# Altium integrated library NXP LPC2000.IntLib: 82 symbols (part 6 of 6)
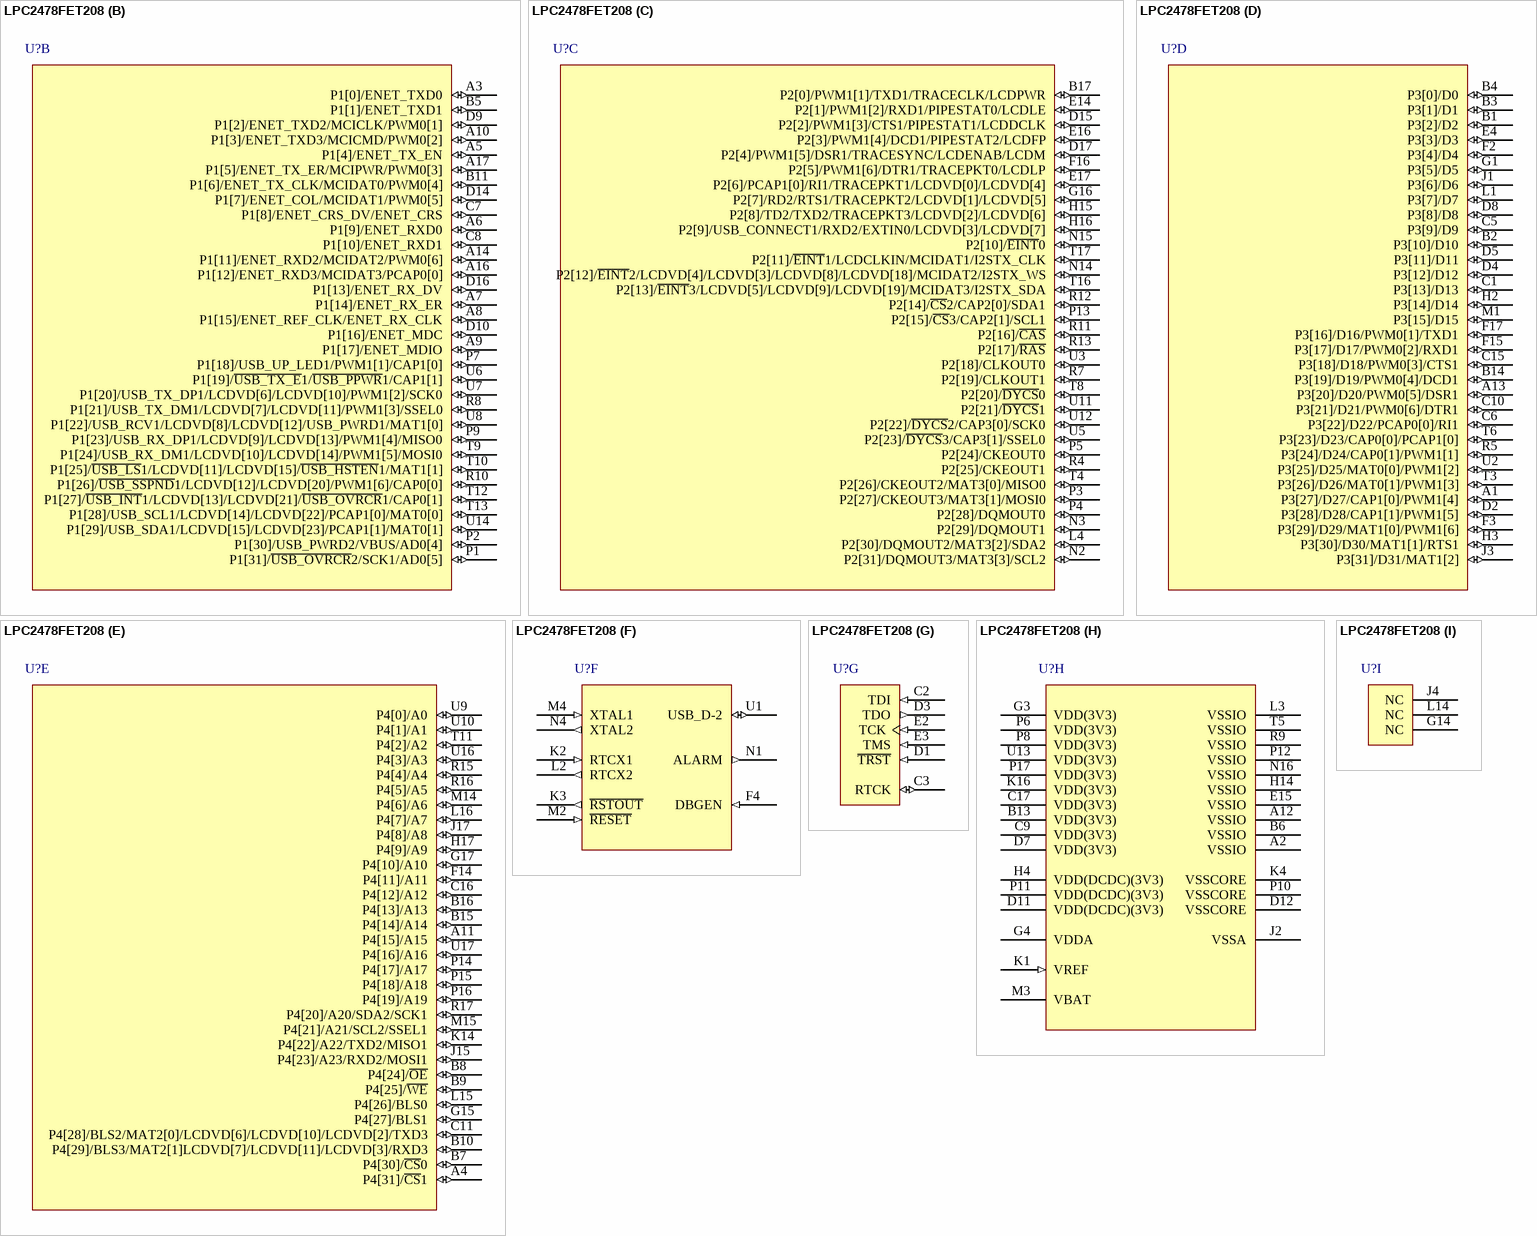
[diagram p34: symbol LPC2478FET208]

## LPC2478FET208
designator U?
ARM7 16/32-Bit Microcontroller, 512KB Flash, 98KB RAM, LCD controller, 208-Lead TFBGA; Published: 17-Aug-2007; DatasheetVersion: rev.01, Jul-2007; PackageVersion: Jun-2006; PackageReference: SOT950-1; Publisher: Altium Limited; PackageDescription: 208-Ball Plastic Thin Fine Pitch Ball Grid Array, TFBGA208; ComponentLink1Description: Manufacturer Link; ComponentLink1URL: http://www.nxp.com/; ComponentLink2Description: Datasheet; ComponentLink2URL: http://www.standardics.nxp.com/products/lpc2000/datasheet/lpc2478.pdf
footprint SOT950-1 (BGA, 208-Leads, Body 15x15mm, Pitch 0.8mm)
3D model LPC2478-BGA208 (208-Ball Plastic Thin Fine Pitch Ball Grid Array, TFBGA208)
part A pins: A15 P0[8]/I2STX_WS/LCDVD[16]/MISO1/MAT2[2] (io), B12 P0[4]/I2SRX_CLK/LCDVD[0]/RD2/CAP2[0] (io), C4 P0[2]/TXD0 (io), C12 P0[5]/I2SRX_WS/LCDVD[1]/TD2/CAP2[1] (io), C13 P0[7]/I2STX_CLK/LCDVD[9]/SCK1/MAT2[1] (io), C14 P0[9]/I2STX_SDA/LCDVD[17]/MOSI1/MAT2[3] (io), D6 P0[3]/RXD0 (io), D13 P0[6]/I2SRX_SDA/LCDVD[8]/SSEL1/MAT2[0] (io), E1 P0[26]/AD0[3]/AOUT/RXD3 (io), F1 P0[25]/AD0[2]/I2SRX_SDA/TXD3 (io), G2 P0[24]/AD0[1]/I2SRX_WS/CAP3[1] (io), H1 P0[23]/AD0[0]/I2SRX_CLK/CAP3[0] (io), J14 P0[16]/RXD1/SSEL0/SSEL (io), J16 P0[15]/TXD1/SCK0/SCK (io), K15 P0[18]/DCD1/MOSI0/MOSI (io), K17 P0[17]/CTS1/MISO0/MISO (io), L17 P0[19]/DSR1/MCICLK/SDA1 (io), M16 P0[21]/RI1/MCIPWR/RD1 (io), M17 P0[20]/DTR1/MCICMD/SCL1 (io), N17 P0[22]/RTS1/MCIDAT0/TD1 (io), R1 P0[12]/~{USB_PPWR}2/MISO1/AD0[6] (io), R2 P0[13]/USB_UP_LED2/MOSI1/AD0[7] (io), R3 P0[28]/SCL0 (io), R6 P0[30]/USB_D-1 (io), R14 P0[11]/RXD2/SCL2/MAT3[1] (io), T1 P0[27]/SDA0 (io), T2 P0[31]/USB_D+2 (io), T7 P0[14]/~{USB_HSTEN}2/USB_CONNECT2/SSEL1 (io), T14 P0[1]/TD1/RXD3/SCL1 (io), T15 P0[10]/TXD2/SDA2/MAT3[0] (io), U4 P0[29]/USB_D+1 (io), U15 P0[0]/RD1/TXD3/SDA1 (io)
part B pins: A3 P1[0]/ENET_TXD0 (io), A5 P1[4]/ENET_TX_EN (io), A6 P1[9]/ENET_RXD0 (io), A7 P1[14]/ENET_RX_ER (io), A8 P1[15]/ENET_REF_CLK/ENET_RX_CLK (io), A9 P1[17]/ENET_MDIO (io), A10 P1[3]/ENET_TXD3/MCICMD/PWM0[2] (io), A14 P1[11]/ENET_RXD2/MCIDAT2/PWM0[6] (io), A16 P1[12]/ENET_RXD3/MCIDAT3/PCAP0[0] (io), A17 P1[5]/ENET_TX_ER/MCIPWR/PWM0[3] (io), B5 P1[1]/ENET_TXD1 (io), B11 P1[6]/ENET_TX_CLK/MCIDAT0/PWM0[4] (io), C7 P1[8]/ENET_CRS_DV/ENET_CRS (io), C8 P1[10]/ENET_RXD1 (io), D9 P1[2]/ENET_TXD2/MCICLK/PWM0[1] (io), D10 P1[16]/ENET_MDC (io), D14 P1[7]/ENET_COL/MCIDAT1/PWM0[5] (io), D16 P1[13]/ENET_RX_DV (io), P1 P1[31]/~{USB_OVRCR}2/SCK1/AD0[5] (io), P2 P1[30]/USB_PWRD2/VBUS/AD0[4] (io), P7 P1[18]/USB_UP_LED1/PWM1[1]/CAP1[0] (io), P9 P1[23]/USB_RX_DP1/LCDVD[9]/LCDVD[13]/PWM1[4]/MISO0 (io), R8 P1[21]/USB_TX_DM1/LCDVD[7]/LCDVD[11]/PWM1[3]/SSEL0 (io), R10 P1[26]/~{USB_SSPND}1/LCDVD[12]/LCDVD[20]/PWM1[6]/CAP0[0] (io), T9 P1[24]/USB_RX_DM1/LCDVD[10]/LCDVD[14]/PWM1[5]/MOSI0 (io), T10 P1[25]/~{USB_LS}1/LCDVD[11]/LCDVD[15]/~{USB_HSTEN}1/MAT1[1] (io), T12 P1[27]/~{USB_INT}1/LCDVD[13]/LCDVD[21]/~{USB_OVRCR}1/CAP0[1] (io), T13 P1[28]/USB_SCL1/LCDVD[14]/LCDVD[22]/PCAP1[0]/MAT0[0] (io), U6 P1[19]/~{USB_TX_E}1/~{USB_PPWR}1/CAP1[1] (io), U7 P1[20]/USB_TX_DP1/LCDVD[6]/LCDVD[10]/PWM1[2]/SCK0 (io), U8 P1[22]/USB_RCV1/LCDVD[8]/LCDVD[12]/USB_PWRD1/MAT1[0] (io), U14 P1[29]/USB_SDA1/LCDVD[15]/LCDVD[23]/PCAP1[1]/MAT0[1] (io)
part C pins: B17 P2[0]/PWM1[1]/TXD1/TRACECLK/LCDPWR (io), D15 P2[2]/PWM1[3]/CTS1/PIPESTAT1/LCDDCLK (io), D17 P2[4]/PWM1[5]/DSR1/TRACESYNC/LCDENAB/LCDM (io), E14 P2[1]/PWM1[2]/RXD1/PIPESTAT0/LCDLE (io), E16 P2[3]/PWM1[4]/DCD1/PIPESTAT2/LCDFP (io), E17 P2[6]/PCAP1[0]/RI1/TRACEPKT1/LCDVD[0]/LCDVD[4] (io), F16 P2[5]/PWM1[6]/DTR1/TRACEPKT0/LCDLP (io), G16 P2[7]/RD2/RTS1/TRACEPKT2/LCDVD[1]/LCDVD[5] (io), H15 P2[8]/TD2/TXD2/TRACEPKT3/LCDVD[2]/LCDVD[6] (io), H16 P2[9]/USB_CONNECT1/RXD2/EXTIN0/LCDVD[3]/LCDVD[7] (io), L4 P2[30]/DQMOUT2/MAT3[2]/SDA2 (io), N2 P2[31]/DQMOUT3/MAT3[3]/SCL2 (io), N3 P2[29]/DQMOUT1 (io), N14 P2[12]/~{EINT}2/LCDVD[4]/LCDVD[3]/LCDVD[8]/LCDVD[18]/MCIDAT2/I2STX_WS (io), N15 P2[10]/~{EINT}0 (io), P3 P2[27]/CKEOUT3/MAT3[1]/MOSI0 (io), P4 P2[28]/DQMOUT0 (io), P5 P2[24]/CKEOUT0 (io), P13 P2[15]/~{CS}3/CAP2[1]/SCL1 (io), R4 P2[25]/CKEOUT1 (io), R7 P2[19]/CLKOUT1 (io), R11 P2[16]/~{CAS} (io), R12 P2[14]/~{CS}2/CAP2[0]/SDA1 (io), R13 P2[17]/~{RAS} (io), T4 P2[26]/CKEOUT2/MAT3[0]/MISO0 (io), T8 P2[20]/~{DYCS}0 (io), T16 P2[13]/~{EINT}3/LCDVD[5]/LCDVD[9]/LCDVD[19]/MCIDAT3/I2STX_SDA (io), T17 P2[11]/~{EINT}1/LCDCLKIN/MCIDAT1/I2STX_CLK (io), U3 P2[18]/CLKOUT0 (io), U5 P2[23]/~{DYCS}3/CAP3[1]/SSEL0 (io), U11 P2[21]/~{DYCS}1 (io), U12 P2[22]/~{DYCS}2/CAP3[0]/SCK0 (io)
part D pins: A1 P3[27]/D27/CAP1[0]/PWM1[4] (io), A13 P3[20]/D20/PWM0[5]/DSR1 (io), B1 P3[2]/D2 (io), B2 P3[10]/D10 (io), B3 P3[1]/D1 (io), B4 P3[0]/D0 (io), B14 P3[19]/D19/PWM0[4]/DCD1 (io), C1 P3[13]/D13 (io), C5 P3[9]/D9 (io), C6 P3[22]/D22/PCAP0[0]/RI1 (io), C10 P3[21]/D21/PWM0[6]/DTR1 (io), C15 P3[18]/D18/PWM0[3]/CTS1 (io), D2 P3[28]/D28/CAP1[1]/PWM1[5] (io), D4 P3[12]/D12 (io), D5 P3[11]/D11 (io), D8 P3[8]/D8 (io), E4 P3[3]/D3 (io), F2 P3[4]/D4 (io), F3 P3[29]/D29/MAT1[0]/PWM1[6] (io), F15 P3[17]/D17/PWM0[2]/RXD1 (io), F17 P3[16]/D16/PWM0[1]/TXD1 (io), G1 P3[5]/D5 (io), H2 P3[14]/D14 (io), H3 P3[30]/D30/MAT1[1]/RTS1 (io), J1 P3[6]/D6 (io), J3 P3[31]/D31/MAT1[2] (io), L1 P3[7]/D7 (io), M1 P3[15]/D15 (io), R5 P3[24]/D24/CAP0[1]/PWM1[1] (io), T3 P3[26]/D26/MAT0[1]/PWM1[3] (io), T6 P3[23]/D23/CAP0[0]/PCAP1[0] (io), U2 P3[25]/D25/MAT0[0]/PWM1[2] (io)
part E pins: A4 P4[31]/~{CS}1 (io), A11 P4[15]/A15 (io), B7 P4[30]/~{CS}0 (io), B8 P4[24]/~{OE} (io), B9 P4[25]/~{WE} (io), B10 P4[29]/BLS3/MAT2[1]LCDVD[7]/LCDVD[11]/LCDVD[3]/RXD3 (io), B15 P4[14]/A14 (io), B16 P4[13]/A13 (io), C11 P4[28]/BLS2/MAT2[0]/LCDVD[6]/LCDVD[10]/LCDVD[2]/TXD3 (io), C16 P4[12]/A12 (io), F14 P4[11]/A11 (io), G15 P4[27]/BLS1 (io), G17 P4[10]/A10 (io), H17 P4[9]/A9 (io), J15 P4[23]/A23/RXD2/MOSI1 (io), J17 P4[8]/A8 (io), K14 P4[22]/A22/TXD2/MISO1 (io), L15 P4[26]/BLS0 (io), L16 P4[7]/A7 (io), M14 P4[6]/A6 (io), M15 P4[21]/A21/SCL2/SSEL1 (io), P14 P4[17]/A17 (io), P15 P4[18]/A18 (io), P16 P4[19]/A19 (io), R15 P4[4]/A4 (io), R16 P4[5]/A5 (io), R17 P4[20]/A20/SDA2/SCK1 (io), T11 P4[2]/A2 (io), U9 P4[0]/A0 (io), U10 P4[1]/A1 (io), U16 P4[3]/A3 (io), U17 P4[16]/A16 (io)
part F pins: F4 DBGEN (in), K2 RTCX1 (in), K3 ~{RSTOUT} (out), L2 RTCX2 (out), M2 ~{RESET} (in), M4 XTAL1 (in), N1 ALARM (out), N4 XTAL2 (out), U1 USB_D-2 (io)
part G pins: C2 TDI (in), C3 RTCK (io), D1 ~{TRST} (in), D3 TDO (out), E2 TCK (in), E3 TMS (in)
part H pins: A2 VSSIO (power), A12 VSSIO (power), B6 VSSIO (power), B13 VDD(3V3) (power), C9 VDD(3V3) (power), C17 VDD(3V3) (power), D7 VDD(3V3) (power), D11 VDD(DCDC)(3V3) (power), D12 VSSCORE (power), E15 VSSIO (power), G3 VDD(3V3) (power), G4 VDDA (power), H4 VDD(DCDC)(3V3) (power), H14 VSSIO (power), J2 VSSA (power), K1 VREF (in), K4 VSSCORE (power), K16 VDD(3V3) (power), L3 VSSIO (power), M3 VBAT (power), N16 VSSIO (power), P6 VDD(3V3) (power), P8 VDD(3V3) (power), P10 VSSCORE (power), P11 VDD(DCDC)(3V3) (power), P12 VSSIO (power), P17 VDD(3V3) (power), R9 VSSIO (power), T5 VSSIO (power), U13 VDD(3V3) (power)
part I pins: G14 NC, J4 NC, L14 NC

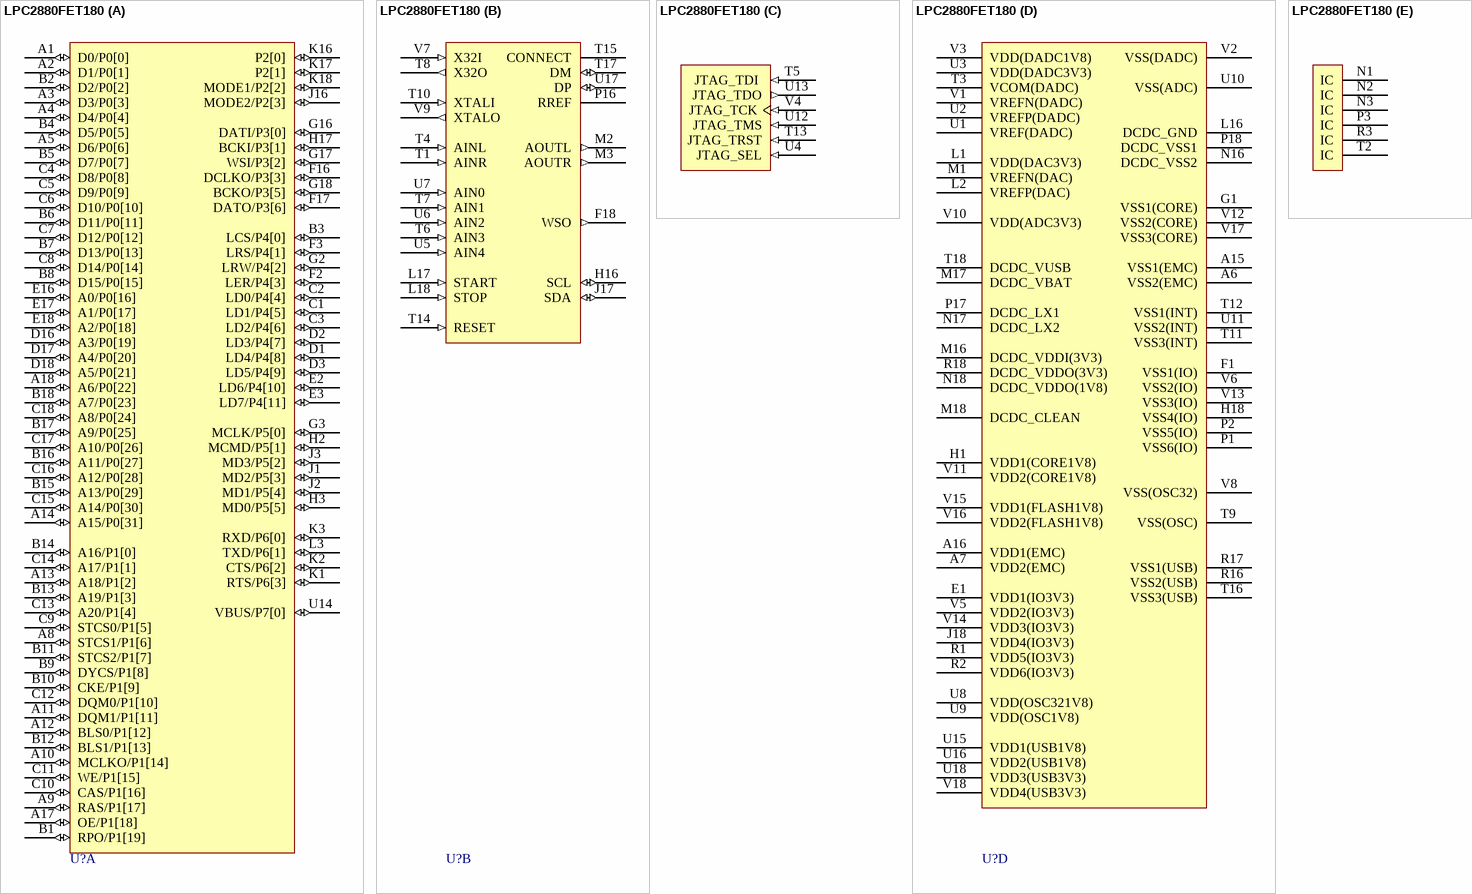
[diagram p28: symbol LPC2880FET180]

## LPC2880FET180
designator U?
ARM7 16/32-Bit Microcontroller, 8 kB cache, 64kB SRAM, Hi-Speed USB 2.0 device, 180-Lead TFBGA; Published: 17-Aug-2007; DatasheetVersion: rev.03, May-2007; PackageVersion: Mar-2003; PackageReference: SOT640-1; Publisher: Altium Limited; PackageDescription: 180-Ball Plastic Thin Fine-Pitch Ball Grid Array (TFBGA180); Code_JEDEC: MO-195; ComponentLink1Description: Manufacturer Link; ComponentLink1URL: http://www.nxp.com/; ComponentLink2Description: Datasheet; ComponentLink2URL: http://www.standardics.nxp.com/products/lpc2000/datasheet/lpc2880.lpc2888.pdf
footprint SOT640-1 (BGA, 180-Leads, Body 10x10mm, Pitch 0.5mm)
3D model LPC2880-BGA180 (180-Ball Plastic Thin Fine-Pitch Ball Grid Array (TFBGA180))
part A pins: A1 D0/P0[0] (io) "external memory data bus, low byte (I/O); GPIO pin", A2 D1/P0[1] (io) "external memory data bus, low byte (I/O); GPIO pin", A3 D3/P0[3] (io) "external memory data bus, low byte (I/O); GPIO pin", A4 D4/P0[4] (io) "external memory data bus, low byte (I/O); GPIO pin", A5 D6/P0[6] (io) "external memory data bus, low byte (I/O); GPIO pin", A8 STCS1/P1[6] (io) "chip select, active LOW for static memory bank 1; GPIO pin", A9 RAS/P1[17] (io) "row address strobe, active LOW for SDRAM; GPIO pin", A10 MCLKO/P1[14] (io) "clock for SDRAM and SyncFlash memory; GPIO pin", A11 DQM1/P1[11] (io) "data mask output for D[15:8], active HIGH for SDRAM; GPIO pin", A12 BLS0/P1[12] (io) "byte lane select for D[7:0], active LOW for static memory; GPIO pin", A13 A18/P1[2] (io) "address bus for static memory; GPIO pins", A14 A15/P0[31] (io) "address bus for static memory; GPIO pins", A17 OE/P1[18] (io) "output enable, active LOW for static memory; GPIO pin", A18 A6/P0[22] (io) "address bus for SDRAM and static memory; GPIO pins", B1 RPO/P1[19] (io) "reset power down, active LOW for SyncFlash memory; GPIO pin", B2 D2/P0[2] (io) "external memory data bus, low byte (I/O); GPIO pin", B3 LCS/P4[0] (io) "chip select to LCD device, programmable polarity; 5 V tolerant GPIO pin", B4 D5/P0[5] (io) "external memory data bus, low byte (I/O); GPIO pin", B5 D7/P0[7] (io) "external memory data bus, low byte (I/O); GPIO pin", B6 D11/P0[11] (io) "external memory data bus, high byte (I/O); GPIO pin", B7 D13/P0[13] (io) "external memory data bus, high byte (I/O); GPIO pin", B8 D15/P0[15] (io) "external memory data bus, high byte (I/O); GPIO pin", B9 DYCS/P1[8] (io) "chip select, active LOW for SDRAM; GPIO pin", B10 CKE/P1[9] (io) "clock enable; active HIGH for SDRAM; GPIO pin", B11 STCS2/P1[7] (io) "chip select, active LOW for static memory bank 2; GPIO pin", B12 BLS1/P1[13] (io) "byte lane select for D[15:8], active LOW for static memory; GPIO pin", B13 A19/P1[3] (io) "address bus for static memory; GPIO pins", B14 A16/P1[0] (io) "address bus for static memory; GPIO pins", B15 A13/P0[29] (io) "address bus for SDRAM and static memory; GPIO pins", B16 A11/P0[27] (io) "address bus for SDRAM and static memory; GPIO pins", B17 A9/P0[25] (io) "address bus for SDRAM and static memory; GPIO pins", B18 A7/P0[23] (io) "address bus for SDRAM and static memory; GPIO pins", C1 LD1/P4[5] (io) "data bus to/from LCD (I/O) or 5 V tolerant GPIO pin", C2 LD0/P4[4] (io) "data bus to/from LCD (I/O) or 5 V tolerant GPIO pin", C3 LD2/P4[6] (io) "data bus to/from LCD (I/O) or 5 V tolerant GPIO pin", C4 D8/P0[8] (io) "external memory data bus, high byte (I/O); GPIO pin", C5 D9/P0[9] (io) "external memory data bus, high byte (I/O); GPIO pin", C6 D10/P0[10] (io) "external memory data bus, high byte (I/O); GPIO pin", C7 D12/P0[12] (io) "external memory data bus, high byte (I/O); GPIO pin", C8 D14/P0[14] (io) "external memory data bus, high byte (I/O); GPIO pin", C9 STCS0/P1[5] (io) "chip select, active LOW for static memory bank 0; GPIO pin", C10 CAS/P1[16] (io) "column address strobe, active LOW for SDRAM; GPIO pin", C11 WE/P1[15] (io) "write enable, active LOW for SDRAM and static memory; GPIO pin", C12 DQM0/P1[10] (io) "data mask output for D[7:0], active HIGH for SDRAM; GPIO pin", C13 A20/P1[4] (io) "address bus for static memory; GPIO pins", C14 A17/P1[1] (io) "address bus for static memory; GPIO pins", C15 A14/P0[30] (io) "address bus for SDRAM and static memory; GPIO pins", C16 A12/P0[28] (io) "address bus for SDRAM and static memory; GPIO pins", C17 A10/P0[26] (io) "address bus for SDRAM and static memory; GPIO pins", C18 A8/P0[24] (io) "address bus for SDRAM and static memory; GPIO pins", D1 LD4/P4[8] (io) "data bus to/from LCD (I/O) or 5 V tolerant GPIO pin", D2 LD3/P4[7] (io) "data bus to/from LCD (I/O) or 5 V tolerant GPIO pin", D3 LD5/P4[9] (io) "data bus to/from LCD (I/O) or 5 V tolerant GPIO pin", D16 A3/P0[19] (io) "address bus for SDRAM and static memory; GPIO pins", D17 A4/P0[20] (io) "address bus for SDRAM and static memory; GPIO pins", D18 A5/P0[21] (io) "address bus for SDRAM and static memory; GPIO pins", E2 LD6/P4[10] (io) "data bus to/from LCD (I/O) or 5 V tolerant GPIO pin", E3 LD7/P4[11] (io) "data bus to/from LCD (I/O) or 5 V tolerant GPIO pin", E16 A0/P0[16] (io) "address bus for SDRAM and static memory; GPIO pins", E17 A1/P0[17] (io) "address bus for SDRAM and static memory; GPIO pins", E18 A2/P0[18] (io) "address bus for SDRAM and static memory; GPIO pins", F2 LER/P4[3] (io) "6800 E or 8080 RDor 5 V tolerant GPIO pin", F3 LRS/P4[1] (io) "‘HIGH’ data register select, ‘LOW’ instruction register select, or 5 V tolerant GPIO pin", F16 DCLKO/P3[3] (io) "256 ×clock output; 5 V tolerant GPIO pin", F17 DATO/P3[6] (io) "DAO serial data output; 5 V tolerant GPIO pin", G2 LRW/P4[2] (io) "6800 W/Ror 8080 WRor 5 V tolerant GPIO pin", G3 MCLK/P5[0] (io) "MCI clock output; 5 V tolerant GPIO pin", G16 DATI/P3[0] (io) "DAI serial data input; 5 V tolerant GPIO pin", G17 WSI/P3[2] (io) "DAI word select; 5 V tolerant GPIO pin", G18 BCKO/P3[5] (io) "DAO bit clock; 5 V tolerant GPIO pin", H2 MCMD/P5[1] (io) "command (I/O); 5 V tolerant GPIO pin", H3 MD0/P5[5] (io) "data bus from/to MCI/SD card (I/O); 5 V tolerant GPIO pin", H17 BCKI/P3[1] (io) "DAI bit clock; 5 V tolerant GPIO pin", J1 MD2/P5[3] (io) "data bus from/to MCI/SD card (I/O); 5 V tolerant GPIO pin", J2 MD1/P5[4] (io) "data bus from/to MCI/SD card (I/O); 5 V tolerant GPIO pin", J3 MD3/P5[2] (io) "data bus from/to MCI/SD card (I/O); 5 V tolerant GPIO pin", J16 MODE2/P2[3] (io) "start up MODE PIN2 (pull down); 5 V tolerant GPIO pin", K1 RTS/P6[3] (io) "request to send or receive flow control, active LOW; 5 V tolerant GPIO pin", K2 CTS/P6[2] (io) "clear to send or transmit flow control, active LOW; 5 V tolerant GPIO pin", K3 RXD/P6[0] (io) "serial input; 5 V tolerant GPIO pin", K16 P2[0] (io) "5 V tolerant GPIO pin", K17 P2[1] (io) "5 V tolerant GPIO pin", K18 MODE1/P2[2] (io) "start up MODE PIN1 (pull down); 5 V tolerant GPIO pin", L3 TXD/P6[1] (io) "serial output; 5 V tolerant GPIO pin", U14 VBUS/P7[0] (io) "USB supply detection; 5 V tolerant GPIO pin"
part B pins: F18 WSO (out) "DAO word select; 5 V tolerant pin", H16 SCL (io) "serial clock (input/open-drain output); 5 V tolerant pin", J17 SDA (io) "serial data (input/open-drain output); 5 V tolerant pin", L17 START (in) "DC-to-DC converter activation", L18 STOP (in) "DC-to-DC converter deactivation", M2 AOUTL (out) "DAC L analog out", M3 AOUTR (out) "DAC R analog out", P16 RREF (power) "transceiver reference; connect an external 12 k.1 % resistor to ground", T1 AINR (in) "analog R input channel", T4 AINL (in) "analog L input channel", T6 AIN3 (in) "multiplexed analog input", T7 AIN1 (in) "multiplexed analog input", T8 X32O (out) "32.768 kHz oscillator output", T10 XTALI (in) "main oscillator input", T14 RESET (in) "master reset, active LOW; 5 V tolerant pin", T15 CONNECT (power) "used for signalling speed capability; for high speed USB, connect an external 1.5 k.resistor to 3.3 V", T17 DM (io) "negative USB data line", U5 AIN4 (in) "multiplexed analog input", U6 AIN2 (in) "multiplexed analog input", U7 AIN0 (in) "multiplexed analog input", U17 DP (io) "positive USB data line", V7 X32I (in) "32.768 kHz oscillator input", V9 XTALO (out) "main oscillator output"
part C pins: T5 JTAG_TDI  (in) "JTAG data input (pull-up); 5 V tolerant pin", T13 JTAG_TRST (in) "JTAG reset input (pull-down); 5 V tolerant pin", U4 JTAG_SEL (in) "JTAG selection (pull-down); 5 V tolerant pin", U12 JTAG_TMS (in) "JTAG mode select input (pull-up); 5 V tolerant pin", U13 JTAG_TDO (out) "JTAG data output; 5 V tolerant pin", V4 JTAG_TCK (in) "JTAG reset input (pull-down); 5 V tolerant pin"
part D pins: A6 VSS2(EMC) (power) "ground for external memory controller", A7 VDD2(EMC) (power) "1.8 V or 3.3 V for external memory controller", A15 VSS1(EMC) (power) "ground for external memory controller", A16 VDD1(EMC) (power) "1.8 V or 3.3 V for external memory controller", E1 VDD1(IO3V3) (power) "3.3 V for peripherals", F1 VSS1(IO) (power) "ground for peripherals", G1 VSS1(CORE) (power) "ground for internal RAM and ROM", H1 VDD1(CORE1V8) (power) "1.8 V for internal RAM and ROM", H18 VSS4(IO) (power) "ground for peripherals", J18 VDD4(IO3V3) (power) "3.3 V for peripherals", L1 VDD(DAC3V3) (power) "3.3 V for DAC", L2 VREFP(DAC) (power) "positive reference voltage", L16 DCDC_GND (power) "DC-to-DC converter main ground and substrate", M1 VREFN(DAC) (power) "negative reference voltage", M16 DCDC_VDDI(3V3) (power) "DC/DC1 3.3 V input voltage", M17 DCDC_VBAT (power) "connect to battery +", M18 DCDC_CLEAN (power) "reference circuit ground, not connected to substrate", N16 DCDC_VSS2 (power) "ground for DC/DC2, not connected to substrate", N17 DCDC_LX2 (power) "connect to external coil for DC/DC2", N18 DCDC_VDDO(1V8) (power) "DC/DC2 1.8 V output voltage", P1 VSS6(IO) (power) "ground for peripherals", P2 VSS5(IO) (power) "ground for peripherals", P17 DCDC_LX1 (power) "connect to external coil for DC/DC1", P18 DCDC_VSS1 (power) "ground for DC/DC1, not connected to substrate", R1 VDD5(IO3V3) (power) "3.3 V for peripherals", R2 VDD6(IO3V3) (power) "3.3 V for peripherals", R16 VSS2(USB) (power) "analog ground", R17 VSS1(USB) (power) "analog ground", R18 DCDC_VDDO(3V3) (power) "DC/DC1 3.3 V output voltage", T3 VCOM(DADC) (power) "ADC common reference voltage and analog output reference voltage combined on-chip", T9 VSS(OSC) (power) "ground", T11 VSS3(INT) (power) "ground for other internal blocks", T12 VSS1(INT) (power) "ground for other internal blocks", T16 VSS3(USB) (power) "analog ground", T18 DCDC_VUSB (power) "connect to +5 V pin of USB connector", U1 VREF(DADC) (power) "ADC reference voltage", U2 VREFP(DADC) (power) "ADC positive reference voltage", U3 VDD(DADC3V3) (power) "3.3 V for dual ADC", U8 VDD(OSC321V8) (power) "1.8 V", U9 VDD(OSC1V8) (power) "1.8 V", U10 VSS(ADC) (power) "ground", U11 VSS2(INT) (power) "ground for other internal blocks", U15 VDD1(USB1V8) (power) "analog 1.8 V", U16 VDD2(USB1V8) (power) "analog 1.8 V", U18 VDD3(USB3V3) (power) "analog 3.3 V", V1 VREFN(DADC) (power) "ADC negative reference voltage", V2 VSS(DADC) (power) "ground for dual ADC", V3 VDD(DADC1V8) (power) "1.8 V for dual ADC", V5 VDD2(IO3V3) (power) "3.3 V for peripherals", V6 VSS2(IO) (power) "ground for peripherals", V8 VSS(OSC32) (power) "ground", V10 VDD(ADC3V3) (power) "3.3 V analog supply and reference voltage", V11 VDD2(CORE1V8) (power) "1.8 V for core", V12 VSS2(CORE) (power) "ground for core", V13 VSS3(IO) (power) "ground for peripherals", V14 VDD3(IO3V3) (power) "3.3 V for peripherals", V15 VDD1(FLASH1V8) (power) "1.8 V for internal flash memory", V16 VDD2(FLASH1V8) (power) "1.8 V for internal flash memory", V17 VSS3(CORE) (power) "ground for core, substrate, flash", V18 VDD4(USB3V3) (power) "analog 3.3 V"
part E pins: N1 IC "This pin connected internally and must be left unconnected in an application.", N2 IC "This pin connected internally and must be left unconnected in an application.", N3 IC "This pin connected internally and must be left unconnected in an application.", P3 IC "This pin connected internally and must be left unconnected in an application.", R3 IC "This pin connected internally and must be left unconnected in an application.", T2 IC "This pin connected internally and must be left unconnected in an application."

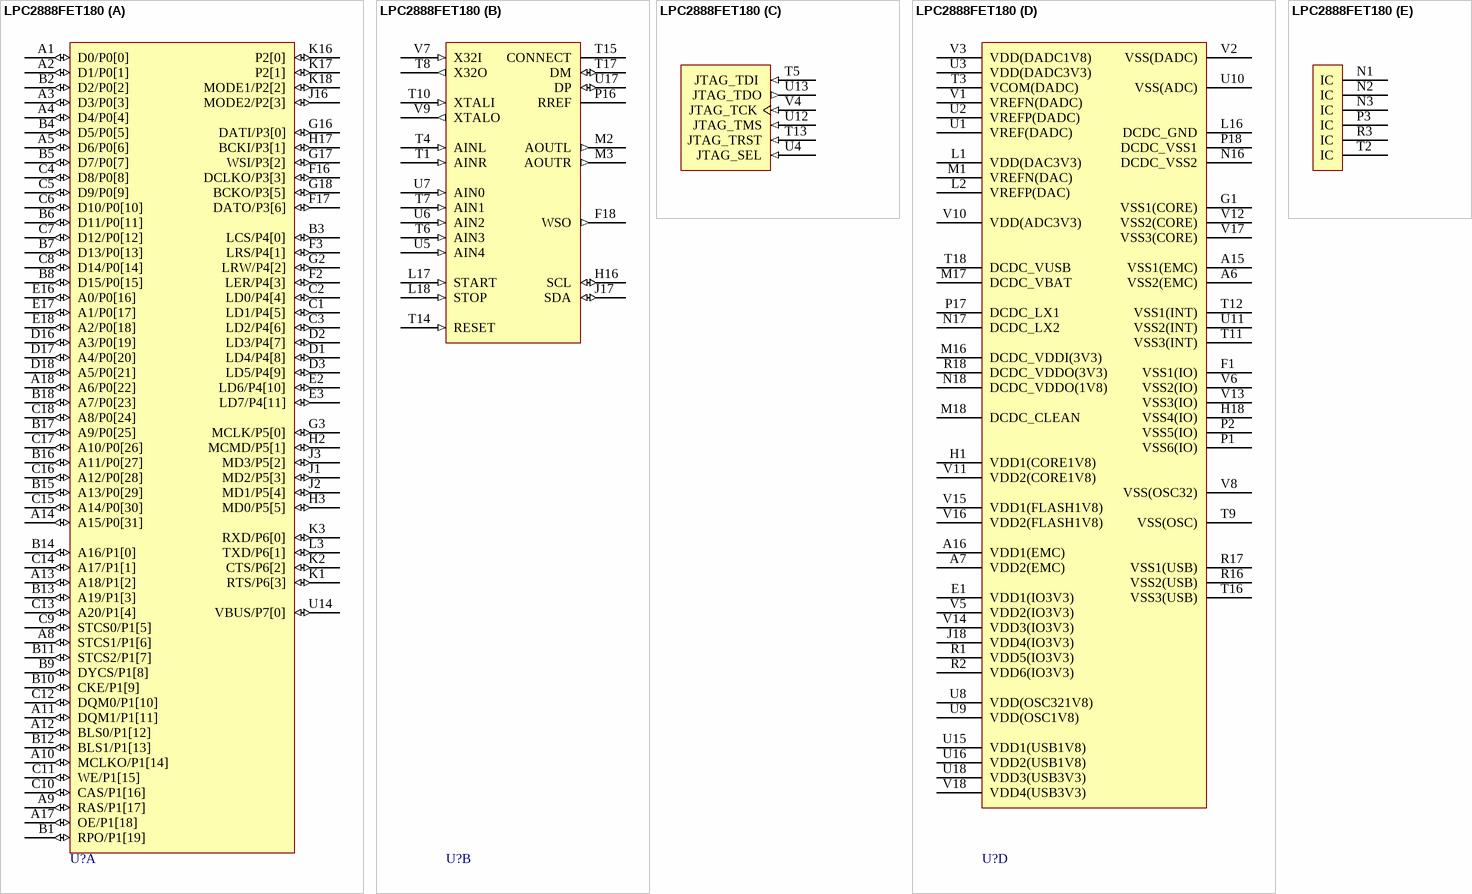
[diagram p29: symbol LPC2888FET180]

## LPC2888FET180
designator U?
ARM7 16/32-Bit Microcontroller, 8 kB cache, 64kB SRAM, 1 MB Flash, Hi-Speed USB 2.0 device, 180-Lead TFBGA; Published: 17-Aug-2007; DatasheetVersion: rev.03, May-2007; PackageVersion: Mar-2003; PackageReference: SOT640-1; Publisher: Altium Limited; PackageDescription: 180-Ball Plastic Thin Fine-Pitch Ball Grid Array (TFBGA180); Code_JEDEC: MO-195; ComponentLink1Description: Manufacturer Link; ComponentLink1URL: http://www.nxp.com/; ComponentLink2Description: Datasheet; ComponentLink2URL: http://www.standardics.nxp.com/products/lpc2000/datasheet/lpc2880.lpc2888.pdf
footprint SOT640-1 (BGA, 180-Leads, Body 10x10mm, Pitch 0.5mm)
3D model LPC2888-BGA180 (180-Ball Plastic Thin Fine-Pitch Ball Grid Array (TFBGA180))
part A pins: A1 D0/P0[0] (io) "external memory data bus, low byte (I/O); GPIO pin", A2 D1/P0[1] (io) "external memory data bus, low byte (I/O); GPIO pin", A3 D3/P0[3] (io) "external memory data bus, low byte (I/O); GPIO pin", A4 D4/P0[4] (io) "external memory data bus, low byte (I/O); GPIO pin", A5 D6/P0[6] (io) "external memory data bus, low byte (I/O); GPIO pin", A8 STCS1/P1[6] (io) "chip select, active LOW for static memory bank 1; GPIO pin", A9 RAS/P1[17] (io) "row address strobe, active LOW for SDRAM; GPIO pin", A10 MCLKO/P1[14] (io) "clock for SDRAM and SyncFlash memory; GPIO pin", A11 DQM1/P1[11] (io) "data mask output for D[15:8], active HIGH for SDRAM; GPIO pin", A12 BLS0/P1[12] (io) "byte lane select for D[7:0], active LOW for static memory; GPIO pin", A13 A18/P1[2] (io) "address bus for static memory; GPIO pins", A14 A15/P0[31] (io) "address bus for static memory; GPIO pins", A17 OE/P1[18] (io) "output enable, active LOW for static memory; GPIO pin", A18 A6/P0[22] (io) "address bus for SDRAM and static memory; GPIO pins", B1 RPO/P1[19] (io) "reset power down, active LOW for SyncFlash memory; GPIO pin", B2 D2/P0[2] (io) "external memory data bus, low byte (I/O); GPIO pin", B3 LCS/P4[0] (io) "chip select to LCD device, programmable polarity; 5 V tolerant GPIO pin", B4 D5/P0[5] (io) "external memory data bus, low byte (I/O); GPIO pin", B5 D7/P0[7] (io) "external memory data bus, low byte (I/O); GPIO pin", B6 D11/P0[11] (io) "external memory data bus, high byte (I/O); GPIO pin", B7 D13/P0[13] (io) "external memory data bus, high byte (I/O); GPIO pin", B8 D15/P0[15] (io) "external memory data bus, high byte (I/O); GPIO pin", B9 DYCS/P1[8] (io) "chip select, active LOW for SDRAM; GPIO pin", B10 CKE/P1[9] (io) "clock enable; active HIGH for SDRAM; GPIO pin", B11 STCS2/P1[7] (io) "chip select, active LOW for static memory bank 2; GPIO pin", B12 BLS1/P1[13] (io) "byte lane select for D[15:8], active LOW for static memory; GPIO pin", B13 A19/P1[3] (io) "address bus for static memory; GPIO pins", B14 A16/P1[0] (io) "address bus for static memory; GPIO pins", B15 A13/P0[29] (io) "address bus for SDRAM and static memory; GPIO pins", B16 A11/P0[27] (io) "address bus for SDRAM and static memory; GPIO pins", B17 A9/P0[25] (io) "address bus for SDRAM and static memory; GPIO pins", B18 A7/P0[23] (io) "address bus for SDRAM and static memory; GPIO pins", C1 LD1/P4[5] (io) "data bus to/from LCD (I/O) or 5 V tolerant GPIO pin", C2 LD0/P4[4] (io) "data bus to/from LCD (I/O) or 5 V tolerant GPIO pin", C3 LD2/P4[6] (io) "data bus to/from LCD (I/O) or 5 V tolerant GPIO pin", C4 D8/P0[8] (io) "external memory data bus, high byte (I/O); GPIO pin", C5 D9/P0[9] (io) "external memory data bus, high byte (I/O); GPIO pin", C6 D10/P0[10] (io) "external memory data bus, high byte (I/O); GPIO pin", C7 D12/P0[12] (io) "external memory data bus, high byte (I/O); GPIO pin", C8 D14/P0[14] (io) "external memory data bus, high byte (I/O); GPIO pin", C9 STCS0/P1[5] (io) "chip select, active LOW for static memory bank 0; GPIO pin", C10 CAS/P1[16] (io) "column address strobe, active LOW for SDRAM; GPIO pin", C11 WE/P1[15] (io) "write enable, active LOW for SDRAM and static memory; GPIO pin", C12 DQM0/P1[10] (io) "data mask output for D[7:0], active HIGH for SDRAM; GPIO pin", C13 A20/P1[4] (io) "address bus for static memory; GPIO pins", C14 A17/P1[1] (io) "address bus for static memory; GPIO pins", C15 A14/P0[30] (io) "address bus for SDRAM and static memory; GPIO pins", C16 A12/P0[28] (io) "address bus for SDRAM and static memory; GPIO pins", C17 A10/P0[26] (io) "address bus for SDRAM and static memory; GPIO pins", C18 A8/P0[24] (io) "address bus for SDRAM and static memory; GPIO pins", D1 LD4/P4[8] (io) "data bus to/from LCD (I/O) or 5 V tolerant GPIO pin", D2 LD3/P4[7] (io) "data bus to/from LCD (I/O) or 5 V tolerant GPIO pin", D3 LD5/P4[9] (io) "data bus to/from LCD (I/O) or 5 V tolerant GPIO pin", D16 A3/P0[19] (io) "address bus for SDRAM and static memory; GPIO pins", D17 A4/P0[20] (io) "address bus for SDRAM and static memory; GPIO pins", D18 A5/P0[21] (io) "address bus for SDRAM and static memory; GPIO pins", E2 LD6/P4[10] (io) "data bus to/from LCD (I/O) or 5 V tolerant GPIO pin", E3 LD7/P4[11] (io) "data bus to/from LCD (I/O) or 5 V tolerant GPIO pin", E16 A0/P0[16] (io) "address bus for SDRAM and static memory; GPIO pins", E17 A1/P0[17] (io) "address bus for SDRAM and static memory; GPIO pins", E18 A2/P0[18] (io) "address bus for SDRAM and static memory; GPIO pins", F2 LER/P4[3] (io) "6800 E or 8080 RDor 5 V tolerant GPIO pin", F3 LRS/P4[1] (io) "‘HIGH’ data register select, ‘LOW’ instruction register select, or 5 V tolerant GPIO pin", F16 DCLKO/P3[3] (io) "256 ×clock output; 5 V tolerant GPIO pin", F17 DATO/P3[6] (io) "DAO serial data output; 5 V tolerant GPIO pin", G2 LRW/P4[2] (io) "6800 W/Ror 8080 WRor 5 V tolerant GPIO pin", G3 MCLK/P5[0] (io) "MCI clock output; 5 V tolerant GPIO pin", G16 DATI/P3[0] (io) "DAI serial data input; 5 V tolerant GPIO pin", G17 WSI/P3[2] (io) "DAI word select; 5 V tolerant GPIO pin", G18 BCKO/P3[5] (io) "DAO bit clock; 5 V tolerant GPIO pin", H2 MCMD/P5[1] (io) "command (I/O); 5 V tolerant GPIO pin", H3 MD0/P5[5] (io) "data bus from/to MCI/SD card (I/O); 5 V tolerant GPIO pin", H17 BCKI/P3[1] (io) "DAI bit clock; 5 V tolerant GPIO pin", J1 MD2/P5[3] (io) "data bus from/to MCI/SD card (I/O); 5 V tolerant GPIO pin", J2 MD1/P5[4] (io) "data bus from/to MCI/SD card (I/O); 5 V tolerant GPIO pin", J3 MD3/P5[2] (io) "data bus from/to MCI/SD card (I/O); 5 V tolerant GPIO pin", J16 MODE2/P2[3] (io) "start up MODE PIN2 (pull down); 5 V tolerant GPIO pin", K1 RTS/P6[3] (io) "request to send or receive flow control, active LOW; 5 V tolerant GPIO pin", K2 CTS/P6[2] (io) "clear to send or transmit flow control, active LOW; 5 V tolerant GPIO pin", K3 RXD/P6[0] (io) "serial input; 5 V tolerant GPIO pin", K16 P2[0] (io) "5 V tolerant GPIO pin", K17 P2[1] (io) "5 V tolerant GPIO pin", K18 MODE1/P2[2] (io) "start up MODE PIN1 (pull down); 5 V tolerant GPIO pin", L3 TXD/P6[1] (io) "serial output; 5 V tolerant GPIO pin", U14 VBUS/P7[0] (io) "USB supply detection; 5 V tolerant GPIO pin"
part B pins: F18 WSO (out) "DAO word select; 5 V tolerant pin", H16 SCL (io) "serial clock (input/open-drain output); 5 V tolerant pin", J17 SDA (io) "serial data (input/open-drain output); 5 V tolerant pin", L17 START (in) "DC-to-DC converter activation", L18 STOP (in) "DC-to-DC converter deactivation", M2 AOUTL (out) "DAC L analog out", M3 AOUTR (out) "DAC R analog out", P16 RREF (power) "transceiver reference; connect an external 12 k.1 % resistor to ground", T1 AINR (in) "analog R input channel", T4 AINL (in) "analog L input channel", T6 AIN3 (in) "multiplexed analog input", T7 AIN1 (in) "multiplexed analog input", T8 X32O (out) "32.768 kHz oscillator output", T10 XTALI (in) "main oscillator input", T14 RESET (in) "master reset, active LOW; 5 V tolerant pin", T15 CONNECT (power) "used for signalling speed capability; for high speed USB, connect an external 1.5 k.resistor to 3.3 V", T17 DM (io) "negative USB data line", U5 AIN4 (in) "multiplexed analog input", U6 AIN2 (in) "multiplexed analog input", U7 AIN0 (in) "multiplexed analog input", U17 DP (io) "positive USB data line", V7 X32I (in) "32.768 kHz oscillator input", V9 XTALO (out) "main oscillator output"
part C pins: T5 JTAG_TDI  (in) "JTAG data input (pull-up); 5 V tolerant pin", T13 JTAG_TRST (in) "JTAG reset input (pull-down); 5 V tolerant pin", U4 JTAG_SEL (in) "JTAG selection (pull-down); 5 V tolerant pin", U12 JTAG_TMS (in) "JTAG mode select input (pull-up); 5 V tolerant pin", U13 JTAG_TDO (out) "JTAG data output; 5 V tolerant pin", V4 JTAG_TCK (in) "JTAG reset input (pull-down); 5 V tolerant pin"
part D pins: A6 VSS2(EMC) (power) "ground for external memory controller", A7 VDD2(EMC) (power) "1.8 V or 3.3 V for external memory controller", A15 VSS1(EMC) (power) "ground for external memory controller", A16 VDD1(EMC) (power) "1.8 V or 3.3 V for external memory controller", E1 VDD1(IO3V3) (power) "3.3 V for peripherals", F1 VSS1(IO) (power) "ground for peripherals", G1 VSS1(CORE) (power) "ground for internal RAM and ROM", H1 VDD1(CORE1V8) (power) "1.8 V for internal RAM and ROM", H18 VSS4(IO) (power) "ground for peripherals", J18 VDD4(IO3V3) (power) "3.3 V for peripherals", L1 VDD(DAC3V3) (power) "3.3 V for DAC", L2 VREFP(DAC) (power) "positive reference voltage", L16 DCDC_GND (power) "DC-to-DC converter main ground and substrate", M1 VREFN(DAC) (power) "negative reference voltage", M16 DCDC_VDDI(3V3) (power) "DC/DC1 3.3 V input voltage", M17 DCDC_VBAT (power) "connect to battery +", M18 DCDC_CLEAN (power) "reference circuit ground, not connected to substrate", N16 DCDC_VSS2 (power) "ground for DC/DC2, not connected to substrate", N17 DCDC_LX2 (power) "connect to external coil for DC/DC2", N18 DCDC_VDDO(1V8) (power) "DC/DC2 1.8 V output voltage", P1 VSS6(IO) (power) "ground for peripherals", P2 VSS5(IO) (power) "ground for peripherals", P17 DCDC_LX1 (power) "connect to external coil for DC/DC1", P18 DCDC_VSS1 (power) "ground for DC/DC1, not connected to substrate", R1 VDD5(IO3V3) (power) "3.3 V for peripherals", R2 VDD6(IO3V3) (power) "3.3 V for peripherals", R16 VSS2(USB) (power) "analog ground", R17 VSS1(USB) (power) "analog ground", R18 DCDC_VDDO(3V3) (power) "DC/DC1 3.3 V output voltage", T3 VCOM(DADC) (power) "ADC common reference voltage and analog output reference voltage combined on-chip", T9 VSS(OSC) (power) "ground", T11 VSS3(INT) (power) "ground for other internal blocks", T12 VSS1(INT) (power) "ground for other internal blocks", T16 VSS3(USB) (power) "analog ground", T18 DCDC_VUSB (power) "connect to +5 V pin of USB connector", U1 VREF(DADC) (power) "ADC reference voltage", U2 VREFP(DADC) (power) "ADC positive reference voltage", U3 VDD(DADC3V3) (power) "3.3 V for dual ADC", U8 VDD(OSC321V8) (power) "1.8 V", U9 VDD(OSC1V8) (power) "1.8 V", U10 VSS(ADC) (power) "ground", U11 VSS2(INT) (power) "ground for other internal blocks", U15 VDD1(USB1V8) (power) "analog 1.8 V", U16 VDD2(USB1V8) (power) "analog 1.8 V", U18 VDD3(USB3V3) (power) "analog 3.3 V", V1 VREFN(DADC) (power) "ADC negative reference voltage", V2 VSS(DADC) (power) "ground for dual ADC", V3 VDD(DADC1V8) (power) "1.8 V for dual ADC", V5 VDD2(IO3V3) (power) "3.3 V for peripherals", V6 VSS2(IO) (power) "ground for peripherals", V8 VSS(OSC32) (power) "ground", V10 VDD(ADC3V3) (power) "3.3 V analog supply and reference voltage", V11 VDD2(CORE1V8) (power) "1.8 V for core", V12 VSS2(CORE) (power) "ground for core", V13 VSS3(IO) (power) "ground for peripherals", V14 VDD3(IO3V3) (power) "3.3 V for peripherals", V15 VDD1(FLASH1V8) (power) "1.8 V for internal flash memory", V16 VDD2(FLASH1V8) (power) "1.8 V for internal flash memory", V17 VSS3(CORE) (power) "ground for core, substrate, flash", V18 VDD4(USB3V3) (power) "analog 3.3 V"
part E pins: N1 IC "This pin connected internally and must be left unconnected in an application.", N2 IC "This pin connected internally and must be left unconnected in an application.", N3 IC "This pin connected internally and must be left unconnected in an application.", P3 IC "This pin connected internally and must be left unconnected in an application.", R3 IC "This pin connected internally and must be left unconnected in an application.", T2 IC "This pin connected internally and must be left unconnected in an application."